# EAGLE library part AT32UC3A0 (library LITTLEBITS140826)
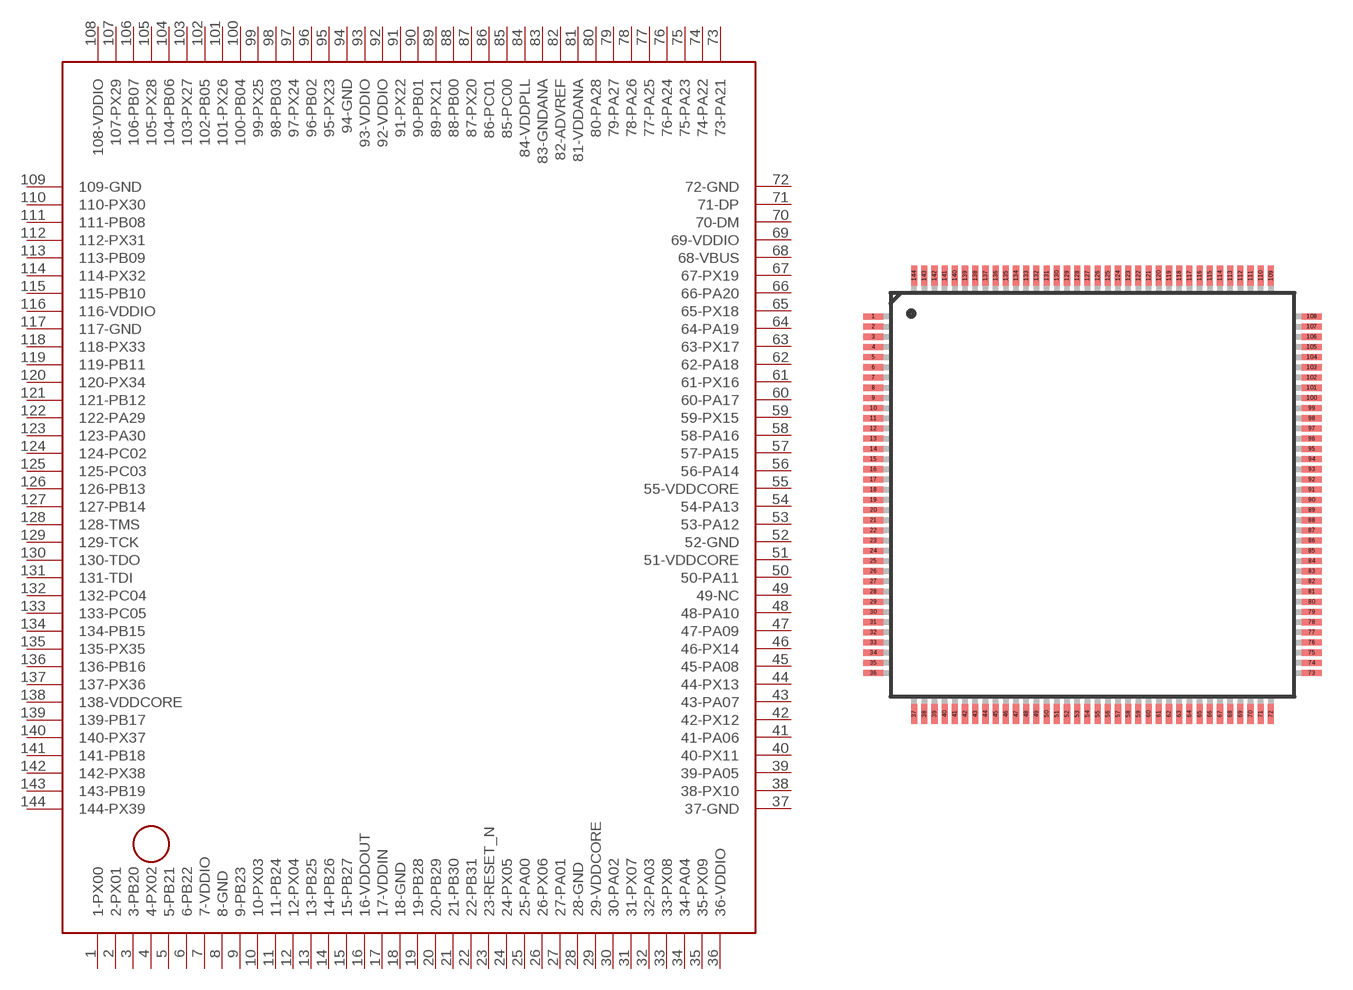
[diagram p47: symbol with the pads of TQFP144; footprint TQFP144]

Designator prefix -

## AT32UC3A0  [TQFP144]
1  1-PX00
2  2-PX01
3  3-PB20
4  4-PX02
5  5-PB21
6  6-PB22
7  7-VDDIO
8  8-GND
9  9-PB23
10  10-PX03
11  11-PB24
12  12-PX04
13  13-PB25
14  14-PB26
15  15-PB27
16  16-VDDOUT
17  17-VDDIN
18  18-GND
19  19-PB28
20  20-PB29
21  21-PB30
22  22-PB31
23  23-RESET_N
24  24-PX05
25  25-PA00
26  26-PX06
27  27-PA01
28  28-GND
29  29-VDDCORE
30  30-PA02
31  31-PX07
32  32-PA03
33  33-PX08
34  34-PA04
35  35-PX09
36  36-VDDIO
37  37-GND
38  38-PX10
39  39-PA05
40  40-PX11
41  41-PA06
42  42-PX12
43  43-PA07
44  44-PX13
45  45-PA08
46  46-PX14
47  47-PA09
48  48-PA10
49  49-NC
50  50-PA11
51  51-VDDCORE
52  52-GND
53  53-PA12
54  54-PA13
55  55-VDDCORE
56  56-PA14
57  57-PA15
58  58-PA16
59  59-PX15
60  60-PA17
61  61-PX16
62  62-PA18
63  63-PX17
64  64-PA19
65  65-PX18
66  66-PA20
67  67-PX19
68  68-VBUS
69  69-VDDIO
70  70-DM
71  71-DP
72  72-GND
73  73-PA21
74  74-PA22
75  75-PA23
76  76-PA24
77  77-PA25
78  78-PA26
79  79-PA27
80  80-PA28
81  81-VDDANA
82  82-ADVREF
83  83-GNDANA
84  84-VDDPLL
85  85-PC00
86  86-PC01
87  87-PX20
88  88-PB00
89  89-PX21
90  90-PB01
91  91-PX22
92  92-VDDIO
93  93-VDDIO
94  94-GND
95  95-PX23
96  96-PB02
97  97-PX24
98  98-PB03
99  99-PX25
100  100-PB04
101  101-PX26
102  102-PB05
103  103-PX27
104  104-PB06
105  105-PX28
106  106-PB07
107  107-PX29
108  108-VDDIO
109  109-GND
110  110-PX30
111  111-PB08
112  112-PX31
113  113-PB09
114  114-PX32
115  115-PB10
116  116-VDDIO
117  117-GND
118  118-PX33
119  119-PB11
120  120-PX34
121  121-PB12
122  122-PA29
123  123-PA30
124  124-PC02
125  125-PC03
126  126-PB13
127  127-PB14
128  128-TMS
129  129-TCK
130  130-TDO
131  131-TDI
132  132-PC04
133  133-PC05
134  134-PB15
135  135-PX35
136  136-PB16
137  137-PX36
138  138-VDDCORE
139  139-PB17
140  140-PX37
141  141-PB18
142  142-PX38
143  143-PB19
144  144-PX39

## Footprint TQFP144 (pad centres in mm)
TQFP144 Auto generated by make-symbol-device-package-bsdl.ulp Rev. 19
smd 1 x 0.3: 1 -10.75,8.75; 2 -10.75,8.25; 3 -10.75,7.75; 4 -10.75,7.25; 5 -10.75,6.75; 6 -10.75,6.25; 7 -10.75,5.75; 8 -10.75,5.25; 9 -10.75,4.75; 10 -10.75,4.25; 11 -10.75,3.75; 12 -10.75,3.25; 13 -10.75,2.75; 14 -10.75,2.25; 15 -10.75,1.75; 16 -10.75,1.25; 17 -10.75,0.75; 18 -10.75,0.25; 19 -10.75,-0.25; 20 -10.75,-0.75; 21 -10.75,-1.25; 22 -10.75,-1.75; 23 -10.75,-2.25; 24 -10.75,-2.75; 25 -10.75,-3.25; 26 -10.75,-3.75; 27 -10.75,-4.25; 28 -10.75,-4.75; 29 -10.75,-5.25; 30 -10.75,-5.75; 31 -10.75,-6.25; 32 -10.75,-6.75; 33 -10.75,-7.25; 34 -10.75,-7.75; 35 -10.75,-8.25; 36 -10.75,-8.75; 73 10.75,-8.75; 74 10.75,-8.25; 75 10.75,-7.75; 76 10.75,-7.25; 77 10.75,-6.75; 78 10.75,-6.25; 79 10.75,-5.75; 80 10.75,-5.25; 81 10.75,-4.75; 82 10.75,-4.25; 83 10.75,-3.75; 84 10.75,-3.25; 85 10.75,-2.75; 86 10.75,-2.25; 87 10.75,-1.75; 88 10.75,-1.25; 89 10.75,-0.75; 90 10.75,-0.25; 91 10.75,0.25; 92 10.75,0.75; 93 10.75,1.25; 94 10.75,1.75; 95 10.75,2.25; 96 10.75,2.75; 97 10.75,3.25; 98 10.75,3.75; 99 10.75,4.25; 100 10.75,4.75; 101 10.75,5.25; 102 10.75,5.75; 103 10.75,6.25; 104 10.75,6.75; 105 10.75,7.25; 106 10.75,7.75; 107 10.75,8.25; 108 10.75,8.75
smd 0.3 x 1: 37 -8.75,-10.75; 38 -8.25,-10.75; 39 -7.75,-10.75; 40 -7.25,-10.75; 41 -6.75,-10.75; 42 -6.25,-10.75; 43 -5.75,-10.75; 44 -5.25,-10.75; 45 -4.75,-10.75; 46 -4.25,-10.75; 47 -3.75,-10.75; 48 -3.25,-10.75; 49 -2.75,-10.75; 50 -2.25,-10.75; 51 -1.75,-10.75; 52 -1.25,-10.75; 53 -0.75,-10.75; 54 -0.25,-10.75; 55 0.25,-10.75; 56 0.75,-10.75; 57 1.25,-10.75; 58 1.75,-10.75; 59 2.25,-10.75; 60 2.75,-10.75; 61 3.25,-10.75; 62 3.75,-10.75; 63 4.25,-10.75; 64 4.75,-10.75; 65 5.25,-10.75; 66 5.75,-10.75; 67 6.25,-10.75; 68 6.75,-10.75; 69 7.25,-10.75; 70 7.75,-10.75; 71 8.25,-10.75; 72 8.75,-10.75; 109 8.75,10.75; 110 8.25,10.75; 111 7.75,10.75; 112 7.25,10.75; 113 6.75,10.75; 114 6.25,10.75; 115 5.75,10.75; 116 5.25,10.75; 117 4.75,10.75; 118 4.25,10.75; 119 3.75,10.75; 120 3.25,10.75; 121 2.75,10.75; 122 2.25,10.75; 123 1.75,10.75; 124 1.25,10.75; 125 0.75,10.75; 126 0.25,10.75; 127 -0.25,10.75; 128 -0.75,10.75; 129 -1.25,10.75; 130 -1.75,10.75; 131 -2.25,10.75; 132 -2.75,10.75; 133 -3.25,10.75; 134 -3.75,10.75; 135 -4.25,10.75; 136 -4.75,10.75; 137 -5.25,10.75; 138 -5.75,10.75; 139 -6.25,10.75; 140 -6.75,10.75; 141 -7.25,10.75; 142 -7.75,10.75; 143 -8.25,10.75; 144 -8.75,10.75